# Altium footprint library 贴片元器件.PCBLIB: 208 footprints (part 12 of 13)
Each footprint in its own frame and in the unit in brackets; x right, y up, seen from the top. Pads: shape width x height; smd on the part's side, far side on the other; paste and mask are expansions set on the pad; w line width, h text height; cw(c..) or ccw(c..) is an arc to the next point about the centre after c.
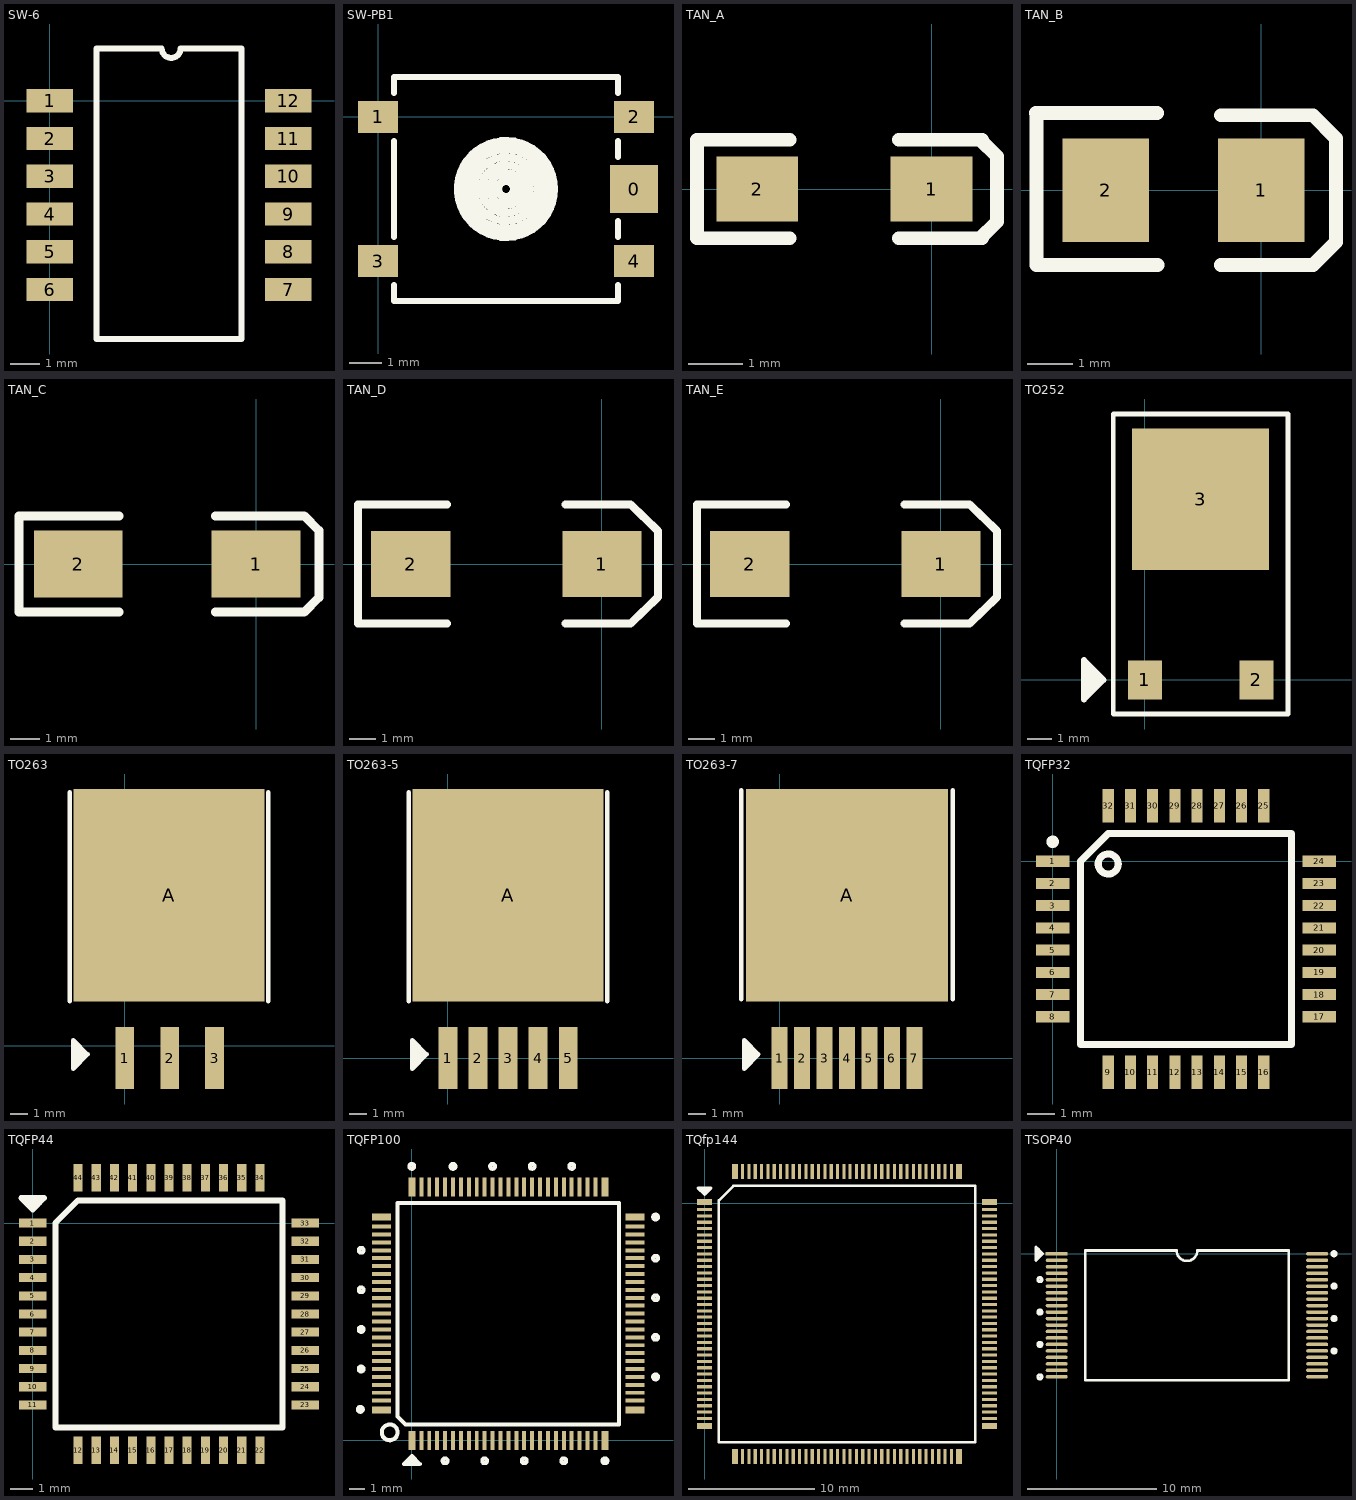
[diagram p11: the footprints below, top view; thin cyan lines are the x and y axes]

## SW-6 [mm]
pads (12):
  rect 1.6x0.8 smd: 1(0,0) 2(0,-1.3) 3(0,-2.6) 4(0,-3.9) 5(0,-5.2) 6(0,-6.5) 7(8.2,-6.5) 8(8.2,-5.2) 9(8.2,-3.9) 10(8.2,-2.6) 11(8.2,-1.3) 12(8.2,0)
TopOverlay:
  lines w0.2: 3.79,1.8 1.6,1.8 1.6,-8.2 6.6,-8.2 6.6,1.8 4.5,1.8 cw(c4.175,1.8) 3.85,1.8

## SW-PB1 [mm]
pads (5):
  rect 1.5x1.5 smd: 0(8,-2.25)
  rect 1.25x1 smd: 1(0,0) 2(8,0) 3(0,-4.5) 4(8,-4.5)
TopOverlay:
  circle w0.254: c4,-2.25 r1.5
  circle w0.254: c4,-2.25 r1.346
  circle w0.254: c4,-2.25 r1.25
  circle w0.254: c4,-2.25 r1
  circle w0.254: c4,-2.25 r0.75
  circle w0.254: c4,-2.25 r0.5
  circle w0.254: c4,-2.25 r0.25
  lines w0.178: 0.5,-5.25 0.5,-5.75 7.5,-5.75 7.5,-5.25 ; 0.5,-3.75 0.5,-0.75 ; 0.5,0.75 0.5,1.25 7.5,1.25 7.5,0.75 ; 7.5,-3.75 7.5,-3.25 ; 7.5,-1.25 7.5,-0.75

## TAN_A [mm]
pads (2):
  rect 1.5x1.2 smd: 1(0,0) 2(-3.194,0)
TopOverlay:
  lines w0.25: -2.6,-0.9 -4.3,-0.9 -4.3,0.9 -2.6,0.9 ; -0.6,-0.9 0.924,-0.9 ; -0.6,0.9 0.924,0.9 ; 0.9,-0.9 1.181,-0.619 ; 0.9,0.9 1.2,0.6 1.2,-0.6

## TAN_B [mil]
pads (2):
  rect 75x90 smd: 1(0,0) 2(-135,0)
TopOverlay:
  lines w12: -195.55,66.93 -90.55,66.93 ; -195,65 -195,-65 -90,-65 ; -35,-65 45,-65 65,-45 65,45 45,65 -35,65

## TAN_C [mil]
pads (2):
  rect 120x90 smd: 1(0,0) 2(-240,0)
TopOverlay:
  lines w12: -185,-65 -320,-65 -320,65 -185,65 ; -55,-65 65,-65 85,-45 85,45 65,65 -55,65

## TAN_D [mil]
pads (2):
  rect 120x100 smd: 1(0,0) 2(-290,0)
TopOverlay:
  lines w12: -235.08,-90.55 -370.08,-90.55 -370.08,90.55 -235.08,90.55 ; -55.12,-90.55 43.31,-90.55 85,-50 85,50 43.31,90.55 -55.12,90.55

## TAN_E [mil]
pads (2):
  rect 120x100 smd: 1(0,0) 2(-290,0)
TopOverlay:
  lines w12: -235.08,-90.55 -370.08,-90.55 -370.08,90.55 -235.08,90.55 ; -55.12,-90.55 43.31,-90.55 85,-50 85,50 43.31,90.55 -55.12,90.55

## TO252 [mm]
pads (3):
  rect 1.4x1.6 smd: 1(0,0) 2(4.57,0)
  rect 5.6x5.8 smd: 3(2.28,7.4)
TopOverlay:
  lines w0.2: -1.3,-1.4 5.87,-1.4 5.87,10.9 -1.3,10.9 -1.3,-1.4
  lines w0.254: -2.3,-0.5 -2.3,0.3 -2.5,0.5 -2,0 -2.5,-0.5 -2.5,-0.8 ; -2.5,-0.8 -2.5,0.8 -1.7,0 -2.5,-0.8

## TO263 [mm]
pads (4):
  rect 1.067x3.5 smd: 1(0,-0.7) 2(2.54,-0.7) 3(5.08,-0.7)
  rect 10.795x12 smd: A(2.5,8.5)
TopOverlay:
  lines w0.254: -3.1,2.5 -3.1,14.311 ; -2.704,-1 -2.704,-0.2 -2.904,0 -2.404,-0.5 -2.904,-1 -2.904,-1.3 ; 8.1,2.5 8.1,14.311 ; -2.904,-1.3 -2.904,0.3 -2.104,-0.5 -2.904,-1.3

## TO263-5 [mil]
pads (6):
  rect 42x137.8 smd: 1(0,0) 2(67,0) 3(134,0) 4(201,0) 5(268,0)
  rect 425x472.44 smd: A(133.86,362.2)
TopOverlay:
  lines w10: -86.61,125.98 -86.61,590.98 ; -71.01,-11.81 -71.01,19.69 -78.88,27.56 -59.2,7.87 -78.88,-11.81 -78.88,-23.62 ; 354.33,125.98 354.33,590.98 ; -78.88,-23.62 -78.88,39.37 -47.39,7.87 -78.88,-23.62

## TO263-7 [mm]
pads (8):
  rect 0.914x3.5 smd: 1(0,0) 2(1.27,0) 3(2.54,0) 4(3.81,0) 5(5.08,0) 6(6.35,0) 7(7.62,0)
  rect 11.43x12 smd: A(3.81,9.2)
TopOverlay:
  lines w0.254: -2.159,3.33 -2.159,15.141 ; -1.804,-0.3 -1.804,0.5 -2.004,0.7 -1.504,0.2 -2.004,-0.3 -2.004,-0.6 ; 9.779,3.33 9.779,15.141 ; -2.004,-0.6 -1.204,0.2 -2.004,1 -2.004,-0.6

## TQFP32 [mm]
pads (32):
  rect 1.2x0.4 smd: 1(0,0) 2(0,-0.8) 3(0,-1.6) 4(0,-2.4) 5(0,-3.2) 6(0,-4) 7(0,-4.8) 8(0,-5.6) 17(9.6,-5.6) 18(9.6,-4.8) 19(9.6,-4) 20(9.6,-3.2) 21(9.6,-2.4) 22(9.6,-1.6) 23(9.6,-0.8) 24(9.6,0)
  rect 0.4x1.2 smd: 9(2,-7.6) 10(2.8,-7.6) 11(3.6,-7.6) 12(4.4,-7.6) 13(5.2,-7.6) 14(6,-7.6) 15(6.8,-7.6) 16(7.6,-7.6) 25(7.6,2) 26(6.8,2) 27(6,2) 28(5.2,2) 29(4.4,2) 30(3.6,2) 31(2.8,2) 32(2,2)
TopOverlay:
  circle w0.254: c0,0.7 r0.1
  circle w0.254: c2,-0.1 r0.361
  lines w0.254: 1,-6.6 1,0 2,1 8.6,1 8.6,-6.6 1,-6.6

## TQFP44 [mm]
pads (44):
  rect 1.2x0.4 smd: 1(0,0) 2(0,-0.8) 3(0,-1.6) 4(0,-2.4) 5(0,-3.2) 6(0,-4) 7(0,-4.8) 8(0,-5.6) 9(0,-6.4) 10(0,-7.2) 11(0,-8) 23(12,-8) 24(12,-7.2) 25(12,-6.4) 26(12,-5.6) 27(12,-4.8) 28(12,-4) 29(12,-3.2) 30(12,-2.4) 31(12,-1.6) 32(12,-0.8) 33(12,0)
  rect 0.4x1.2 smd: 12(2,-10) 13(2.8,-10) 14(3.6,-10) 15(4.4,-10) 16(5.2,-10) 17(6,-10) 18(6.8,-10) 19(7.6,-10) 20(8.4,-10) 21(9.2,-10) 22(10,-10) 34(10,2) 35(9.2,2) 36(8.4,2) 37(7.6,2) 38(6.8,2) 39(6,2) 40(5.2,2) 41(4.4,2) 42(3.6,2) 43(2.8,2) 44(2,2)
TopOverlay:
  lines w0.254: -0.306,0.906 0.306,0.906 0.5,1.1 ; 0.5,1.1 -0.5,1.1 0,0.6 0.5,1.1 ; 1,-9 11,-9 11,1 2,1 1,0 1,-9

## TQFP100 [mm]
pads (100):
  rect 0.45x1.2 smd: 1(0,0) 25(12.2,0) 51(12.2,16) 75(0,16)
  rect 0.25x1.2 smd: 2(0.6,0) 3(1.1,0) 4(1.6,0) 5(2.1,0) 6(2.6,0) 7(3.1,0) 8(3.6,0) 9(4.1,0) 10(4.6,0) 11(5.1,0) 12(5.6,0) 13(6.1,0) 14(6.6,0) 15(7.1,0) 16(7.6,0) 17(8.1,0) 18(8.6,0) 19(9.1,0) 20(9.6,0) 21(10.1,0) 22(10.6,0) 23(11.1,0) 24(11.6,0) 52(11.6,16) 53(11.1,16) 54(10.6,16) 55(10.1,16) 56(9.6,16) 57(9.1,16) 58(8.6,16) 59(8.1,16) 60(7.6,16) 61(7.1,16) 62(6.6,16) 63(6.1,16) 64(5.6,16) 65(5.1,16) 66(4.6,16) 67(4.1,16) 68(3.6,16) 69(3.1,16) 70(2.6,16) 71(2.1,16) 72(1.6,16) 73(1.1,16) 74(0.6,16)
  rect 1.2x0.45 smd: 26(14.1,1.9) 50(14.1,14.1) 76(-1.9,14.1) 100(-1.9,1.9)
  rect 1.2x0.25 smd: 27(14.1,2.5) 28(14.1,3) 29(14.1,3.5) 30(14.1,4) 31(14.1,4.5) 32(14.1,5) 33(14.1,5.5) 34(14.1,6) 35(14.1,6.5) 36(14.1,7) 37(14.1,7.5) 38(14.1,8) 39(14.1,8.5) 40(14.1,9) 41(14.1,9.5) 42(14.1,10) 43(14.1,10.5) 44(14.1,11) 45(14.1,11.5) 46(14.1,12) 47(14.1,12.5) 48(14.1,13) 49(14.1,13.5) 77(-1.9,13.5) 78(-1.9,13) 79(-1.9,12.5) 80(-1.9,12) 81(-1.9,11.5) 82(-1.9,11) 83(-1.9,10.5) 84(-1.9,10) 85(-1.9,9.5) 86(-1.9,9) 87(-1.9,8.5) 88(-1.9,8) 89(-1.9,7.5) 90(-1.9,7) 91(-1.9,6.5) 92(-1.9,6) 93(-1.9,5.5) 94(-1.9,5) 95(-1.9,4.5) 96(-1.9,4) 97(-1.9,3.5) 98(-1.9,3) 99(-1.9,2.5)
TopOverlay:
  circle w0.254: c-1.4,0.5 r0.5
  circle w0.254: c-3.2,12 r0.15
  circle w0.254: c-3.2,9.5 r0.15
  circle w0.254: c-3.2,7 r0.15
  circle w0.254: c-3.2,4.5 r0.15
  circle w0.254: c-3.25,1.95 r0.15
  circle w0.254: c2.1,-1.3 r0.15
  circle w0.254: c4.6,-1.3 r0.15
  circle w0.254: c7.1,-1.3 r0.15
  circle w0.254: c9.6,-1.3 r0.15
  circle w0.254: c12.2,-1.3 r0.15
  circle w0.254: c15.4,4 r0.15
  circle w0.254: c15.4,6.5 r0.15
  circle w0.254: c15.4,9 r0.15
  circle w0.254: c15.4,11.5 r0.15
  circle w0.254: c15.4,14.1 r0.15
  circle w0.254: c10.1,17.3 r0.15
  circle w0.254: c7.6,17.3 r0.15
  circle w0.254: c5.1,17.3 r0.15
  circle w0.254: c2.6,17.3 r0.15
  circle w0.254: c0,17.3 r0.15
  lines w0.254: 0.306,-1.306 -0.306,-1.306 -0.5,-1.5 ; -0.5,-1.5 0.5,-1.5 0,-1 -0.5,-1.5 ; -0.9,1.5 -0.9,15 13.1,15 13.1,1 -0.4,1 -0.9,1.5

## TQfp144 [mm]
pads (144):
  rect 1.2x0.45 smd: 1(0,0.1) 36(0,-17.6) 73(22.5,-17.6) 108(22.5,0.1)
  rect 1.2x0.25 smd: 2(0,-0.5) 3(0,-1) 4(0,-1.5) 5(0,-2) 6(0,-2.5) 7(0,-3) 8(0,-3.5) 9(0,-4) 10(0,-4.5) 11(0,-5) 12(0,-5.5) 13(0,-6) 14(0,-6.5) 15(0,-7) 16(0,-7.5) 17(0,-8) 18(0,-8.5) 19(0,-9) 20(0,-9.5) 21(0,-10) 22(0,-10.5) 23(0,-11) 24(0,-11.5) 25(0,-12) 26(0,-12.5) 27(0,-13) 28(0,-13.5) 29(0,-14) 30(0,-14.5) 31(0,-15) 32(0,-15.5) 33(0,-16) 34(0,-16.5) 35(0,-17) 74(22.5,-17) 75(22.5,-16.5) 76(22.5,-16) 77(22.5,-15.5) 78(22.5,-15) 79(22.5,-14.5) 80(22.5,-14) 81(22.5,-13.5) 82(22.5,-13) 83(22.5,-12.5) 84(22.5,-12) 85(22.5,-11.5) 86(22.5,-11) 87(22.5,-10.5) 88(22.5,-10) 89(22.5,-9.5) 90(22.5,-9) 91(22.5,-8.5) 92(22.5,-8) 93(22.5,-7.5) 94(22.5,-7) 95(22.5,-6.5) 96(22.5,-6) 97(22.5,-5.5) 98(22.5,-5) 99(22.5,-4.5) 100(22.5,-4) 101(22.5,-3.5) 102(22.5,-3) 103(22.5,-2.5) 104(22.5,-2) 105(22.5,-1.5) 106(22.5,-1) 107(22.5,-0.5)
  rect 0.45x1.2 smd: 37(2.4,-20) 72(20.1,-20) 109(20.1,2.5) 144(2.4,2.5)
  rect 0.25x1.2 smd: 38(3,-20) 39(3.5,-20) 40(4,-20) 41(4.5,-20) 42(5,-20) 43(5.5,-20) 44(6,-20) 45(6.5,-20) 46(7,-20) 47(7.5,-20) 48(8,-20) 49(8.5,-20) 50(9,-20) 51(9.5,-20) 52(10,-20) 53(10.5,-20) 54(11,-20) 55(11.5,-20) 56(12,-20) 57(12.5,-20) 58(13,-20) 59(13.5,-20) 60(14,-20) 61(14.5,-20) 62(15,-20) 63(15.5,-20) 64(16,-20) 65(16.5,-20) 66(17,-20) 67(17.5,-20) 68(18,-20) 69(18.5,-20) 70(19,-20) 71(19.5,-20) 110(19.5,2.5) 111(19,2.5) 112(18.5,2.5) 113(18,2.5) 114(17.5,2.5) 115(17,2.5) 116(16.5,2.5) 117(16,2.5) 118(15.5,2.5) 119(15,2.5) 120(14.5,2.5) 121(14,2.5) 122(13.5,2.5) 123(13,2.5) 124(12.5,2.5) 125(12,2.5) 126(11.5,2.5) 127(11,2.5) 128(10.5,2.5) 129(10,2.5) 130(9.5,2.5) 131(9,2.5) 132(8.5,2.5) 133(8,2.5) 134(7.5,2.5) 135(7,2.5) 136(6.5,2.5) 137(6,2.5) 138(5.5,2.5) 139(5,2.5) 140(4.5,2.5) 141(4,2.5) 142(3.5,2.5) 143(3,2.5)
TopOverlay:
  lines w0.2: 1.135,-18.865 21.365,-18.865 21.365,1.365 2.27,1.365 1.135,0.23 1.135,-18.865
  lines w0.254: -0.306,1.006 0.306,1.006 0.5,1.2 ; 0.5,1.2 0,0.7 -0.5,1.2 0.5,1.2

## TSOP40 [mm]
pads (40):
  rect 1.7x0.27 smd: 1(0,0)
  oval 1.7x0.27 smd: 2(0,-0.5) 3(0,-1) 4(0,-1.5) 5(0,-2) 6(0,-2.5) 7(0,-3) 8(0,-3.5) 9(0,-4) 10(0,-4.5) 11(0,-5) 12(0,-5.5) 13(0,-6) 14(0,-6.5) 15(0,-7) 16(0,-7.5) 17(0,-8) 18(0,-8.5) 19(0,-9) 20(0,-9.5) 21(20.1,-9.5) 22(20.1,-9) 23(20.1,-8.5) 24(20.1,-8) 25(20.1,-7.5) 26(20.1,-7) 27(20.1,-6.5) 28(20.1,-6) 29(20.1,-5.5) 30(20.1,-5) 31(20.1,-4.5) 32(20.1,-4) 33(20.1,-3.5) 34(20.1,-3) 35(20.1,-2.5) 36(20.1,-2) 37(20.1,-1.5) 38(20.1,-1) 39(20.1,-0.5) 40(20.1,0)
TopOverlay:
  circle w0.254: c21.4,0 r0.15
  circle w0.254: c21.4,-2.5 r0.15
  circle w0.254: c21.4,-5 r0.15
  circle w0.254: c21.4,-7.5 r0.15
  circle w0.254: c-1.3,-9.5 r0.15
  circle w0.254: c-1.3,-7 r0.15
  circle w0.254: c-1.3,-4.5 r0.15
  circle w0.254: c-1.3,-2 r0.15
  lines w0.2: 2.185,-9.75 2.185,0.25 9.25,0.25 ccw(c10.05,0.25) 10.85,0.25 17.915,0.25 17.915,-9.75 2.185,-9.75
  lines w0.254: -1.406,-0.306 -1.406,0.306 -1.6,0.5 ; -1.6,0.5 -1.6,-0.5 -1.1,0 -1.6,0.5